# EAGLE library part H3LIS331DLTR (library H3LIS331DLTR)
Check availability <https://pricing.snapeda.com/parts/H3LIS331DLTR/STMicroelectronics/view-part?ref=eda>
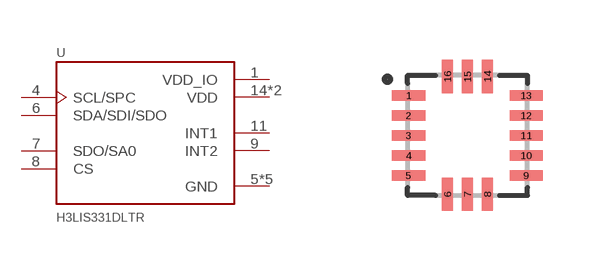
[diagram p0: symbol with the pads of QFN300X300X100-16N; footprint QFN300X300X100-16N]

Designator prefix U

## H3LIS331DLTR (Availability: In Stock; Check_prices: https://www.snapeda.com/parts/H3LIS331DLTR/STMicroelectronics/view-part/?ref=eda; Description: Accelerometer X, Y, Z Axis ±100g, ±200g, ±400g 25Hz ~ 500Hz 16-TFLGA (3x3); MF: STMicroelectronics; MP: H3LIS331DLTR; Package: TFLGA-16 STMicroelectronics; Price: None; SnapEDA_Link: https://www.snapeda.com/parts/H3LIS331DLTR/STMicroelectronics/view-part/?ref=snap)  [QFN300X300X100-16N]
1  VDD_IO  pwr
4  SCL/SPC  in
5  GND  pwr
6  SDA/SDI/SDO
7  SDO/SA0
8  CS  in
9  INT2  out
10  GND  pwr
11  INT1  out
12  GND  pwr
13  GND  pwr
14  VDD  pwr
15  VDD  pwr
16  GND  pwr

## Footprint QFN300X300X100-16N (pad centres in mm)
smd 0.83 x 0.27: 1 -1.47,1; 2 -1.47,0.5; 3 -1.47,0; 4 -1.47,-0.5; 5 -1.47,-1; 9 1.47,-1; 10 1.47,-0.5; 11 1.47,0; 12 1.47,0.5; 13 1.47,1
smd 0.27 x 0.83: 6 -0.5,-1.47; 7 0,-1.47; 8 0.5,-1.47; 14 0.5,1.47; 15 0,1.47; 16 -0.5,1.47